# EAGLE library part LMR16010 (library LMR160X0_snapEDA)
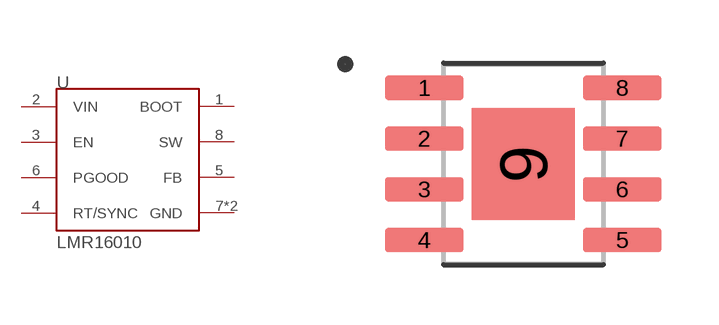
[diagram p0: symbol with the pads of SOIC127P600X170-8N; footprint SOIC127P600X170-8N]

Designator prefix -

## LMR16010  [SOIC127P600X170-8N]
1  BOOT  pwr
2  VIN  pwr
3  EN  in
4  RT/SYNC  in
5  FB  in
6  PGOOD  out
7  GND  pwr
8  SW  out
9  GND  pwr

## Footprint SOIC127P600X170-8N (pad centres in mm)
smd 1.97 x 0.6: 1 -2.475,1.905; 2 -2.475,0.635; 3 -2.475,-0.635; 4 -2.475,-1.905; 5 2.475,-1.905; 6 2.475,-0.635; 7 2.475,0.635; 8 2.475,1.905
smd 2.58 x 2.8: 9 0,0